# EAGLE library part OLED (library mbed-microcontroller)
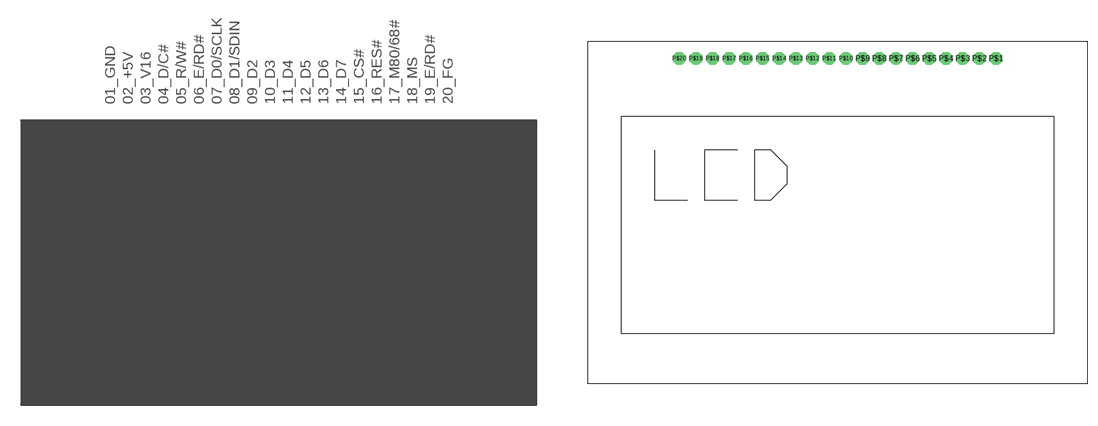
[diagram p3: symbol with the pads of OLED; footprint OLED]

Designator prefix -

## OLED  [OLED]
P$1  01_GND
P$2  02_+5V
P$3  03_V16
P$4  04_D/C#
P$5  05_R/W#
P$6  06_E/RD#
P$7  07_D0/SCLK
P$8  08_D1/SDIN
P$9  09_D2
P$10  10_D3
P$11  11_D4
P$12  12_D5
P$13  13_D6
P$14  14_D7
P$15  15_CS#
P$16  16_RES#
P$17  17_M80/68#
P$18  18_MS
P$19  19_E/RD#
P$20  20_FG

## Footprint OLED (pad centres in mm)
drill 1 pad 1.93 octagon: P$1 24.13,-1.27; P$2 21.59,-1.27; P$3 19.05,-1.27; P$4 16.51,-1.27; P$5 13.97,-1.27; P$6 11.43,-1.27; P$7 8.89,-1.27; P$8 6.35,-1.27; P$9 3.81,-1.27; P$10 1.27,-1.27; P$11 -1.27,-1.27; P$12 -3.81,-1.27; P$13 -6.35,-1.27; P$14 -8.89,-1.27; P$15 -11.43,-1.27; P$16 -13.97,-1.27; P$17 -16.51,-1.27; P$18 -19.05,-1.27; P$19 -21.59,-1.27; P$20 -24.13,-1.27